# Altium schematic symbol library MMBT3904LP-7B.SchLib: 1 symbol
Pins are listed as number, name and electrical type; pins without a type are passive.

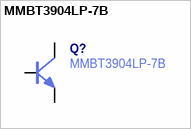
[diagram p0: symbol MMBT3904LP-7B]

## MMBT3904LP-7B
designator Q?
Manufacturer Part Number: MMBT3904LP-7B
pins: 1 B, 2 E, 3 C